# Altium schematic symbol library TSW-110-26-S-D.SchLib: 1 symbol
Pins are listed as number, name and electrical type; pins without a type are passive.

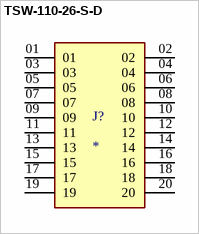
[diagram p0: symbol TSW-110-26-S-D]

## TSW-110-26-S-D
designator J?
MP: TSW-110-26-S-D; Package: None; Price: None; Value: *; Availability: Unavailable
footprint SAMTEC_TSW-110-26-S-D
pins: 01, 02, 03, 04, 05, 06, 07, 08, 09, 10, 11, 12, 13, 14, 15, 16, 17, 18, 19, 20